# Altium footprint library MAX232ECWE_.PcbLib: 1 footprints
Each footprint in its own frame and in the unit in brackets; x right, y up, seen from the top. Pads: shape width x height; smd on the part's side, far side on the other; paste and mask are expansions set on the pad; w line width, h text height; cw(c..) or ccw(c..) is an arc to the next point about the centre after c.
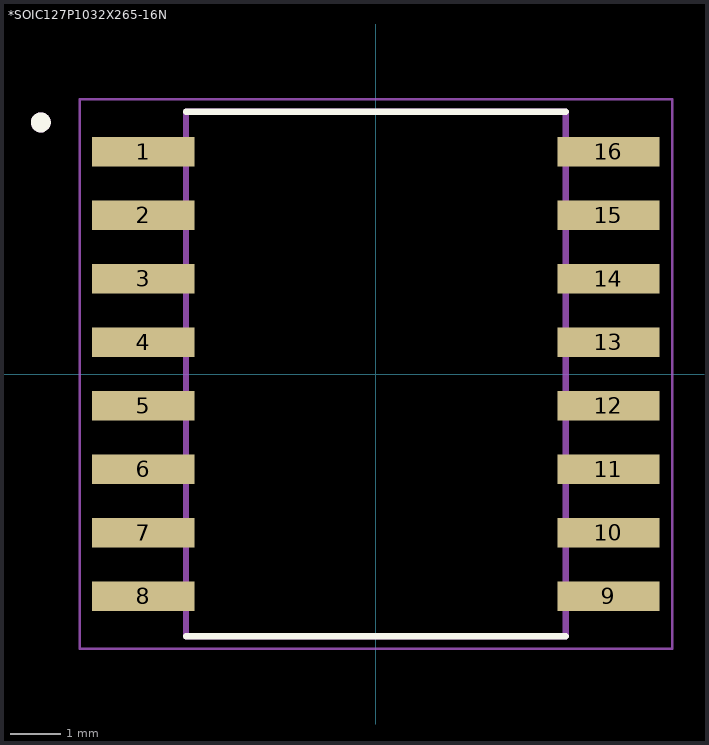
[diagram p0: the footprint, top view; thin cyan lines are the x and y axes]

## *SOIC127P1032X265-16N [mm]
pads (16):
  rect 2.05x0.59 smd: 1(-4.655,4.445) 2(-4.655,3.175) 3(-4.655,1.905) 4(-4.655,0.635) 5(-4.655,-0.635) 6(-4.655,-1.905) 7(-4.655,-3.175) 8(-4.655,-4.445) 9(4.655,-4.445) 10(4.655,-3.175) 11(4.655,-1.905) 12(4.655,-0.635) 13(4.655,0.635) 14(4.655,1.905) 15(4.655,3.175) 16(4.655,4.445)
Top Overlay:
  circle w0.2: c-6.705,5.035 r0.1
  lines w0.127: -3.8,-5.25 3.8,-5.25 ; -3.8,5.25 3.8,5.25
Mechanical 4:
  circle w0.2: c-6.705,5.035 r0.1
  circle w0.2: c-6.705,5.035 r0.1
  lines w0.127: -3.8,-5.25 -3.8,5.25 ; -3.8,-5.25 3.8,-5.25 ; -3.8,-5.25 -3.8,5.25 ; -3.8,-5.25 3.8,-5.25 ; -3.8,5.25 3.8,5.25 ; -3.8,5.25 3.8,5.25 ; 3.8,-5.25 3.8,5.25 ; 3.8,-5.25 3.8,5.25
Courtyard Bottom:
  lines w0.05: -5.93,-5.5 -5.93,5.5 5.93,5.5 5.93,-5.5 -5.93,-5.5
3D body: height 3.5, standoff 0, extent -5.15,-5.1 5.15,5.1